# Altium schematic symbol library HEF4093BT.Schlib: 1 symbol
Pins are listed as number, name and electrical type; pins without a type are passive.

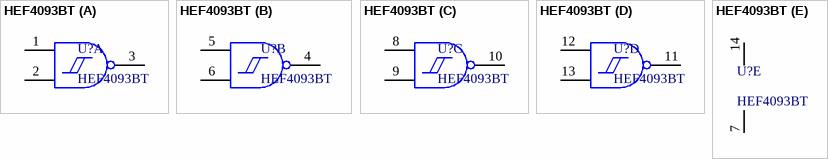
[diagram p0: symbol HEF4093BT]

## HEF4093BT
designator U?
NAND Gate IC Channel Schmitt Trigger 14-SO
part A pins: 1 1A, 2 1B, 3 1Y
part B pins: 4 2Y, 5 2A, 6 2B
part C pins: 8 3A, 9 3B, 10 3Y
part D pins: 11 4Y, 12 4A, 13 4B
part E pins: 7 VSS, 14 VDD